# Altium schematic symbol library ExtraComponents.SchLib: 3 symbols
Pins are listed as number, name and electrical type; pins without a type are passive.

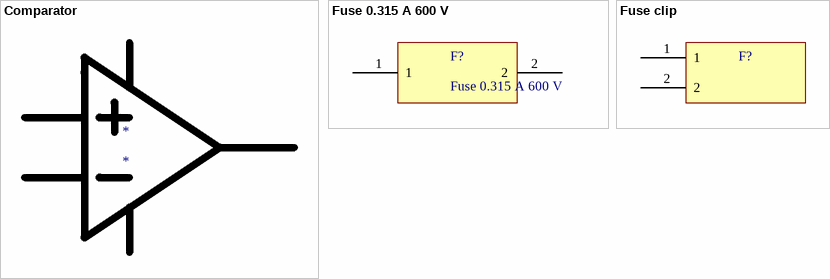
[diagram p0: symbols Comparator to Fuse clip]

## Comparator
designator *

## Fuse 0.315 A 600 V
designator F?
footprint Fuse 600 V 0.315 A
pins: 1, 2

## Fuse clip
designator F?, comment F?  (value not drawn)
Fuse clip for the littlefuse
footprint Fuse clip footprint (102 Series straight Leads Circuit Board Mount Fuse Clips)
pins: 1, 2